# Altium schematic symbol library libysk_discrete.SchLib: 5 symbols
Pins are listed as number, name and electrical type; pins without a type are passive.

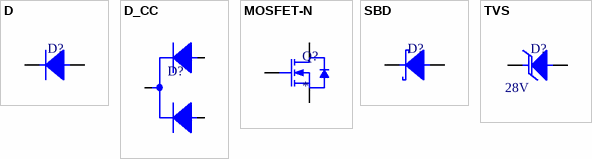
[diagram p0: symbols D to TVS]

## D
designator D?
footprint SMB (Molded Diode, 2-Leads, Body 4.31x3.62mm, IPC Medium Density)
footprint SOD323FLN (SODFL, 2-Leads, Body 1.45x2.60mm, IPC Medium Density)
pins: 1 C, 2 A

## D_CC
designator D?
Diode, Common Cathode
footprint DPAK_JEDEC_N (D-PAK, 3-Pads, Body 6.21x6.73mm (max), IPC Medium Density); pin to pad 2>4
pins: 1 A1, 2 C, 3 A2

## MOSFET-N
designator Q?
footprint DFN-5 (SO-8FL)
footprint D2PAK-7N (D2-PAK, 7-Pads, Body 7.93x8.63mm (max), IPC Medium Density)
pins: D, G, S

## SBD
designator D?
DIODE, SCHOTTKY
footprint SOD-123FLN (SOD-123FL, 2-Leads, Body 1.65x3.60mm, IPC Medium Density)
footprint SOD323FLN (SODFL, 2-Leads, Body 1.45x2.60mm, IPC Medium Density)
footprint SMB (Molded Diode, 2-Leads, Body 4.31x3.62mm, IPC Medium Density)
pins: 1 C, 2 A

## TVS
designator D?  Standoff Voltage: 28V
Clamp Voltage: *
footprint SMB (Molded Diode, 2-Leads, Body 4.31x3.62mm, IPC Medium Density)
pins: 1 C, 2 A